# Altium schematic symbol library lm5050-2.SchLib: 2 symbols
Pins are listed as number, name and electrical type; pins without a type are passive.

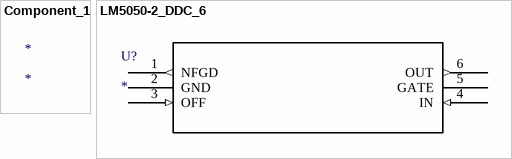
[diagram p0: symbols Component_1 to LM5050-2_DDC_6]

## Component_1
designator *

## LM5050-2_DDC_6
designator U?
Imported; Manufacturer: Texas Instruments; Manufacturer_Part_Number: lm5050-2_ddc_6; basePN: LM5050-2; NSC_PackageReference: MK06A; DatasheetURL: http://www.ti.com/lit/ds/symlink/lm5050-2.pdf; Vendor: Texas Instruments; RefDes: RefDes; Type: DEV; Value: Value
footprint MK06A
pins: 1 NFGD (out), 2 GND (power), 3 OFF (in), 4 IN (in), 5 GATE, 6 OUT (out)